# Altium schematic symbol library HITACHI Memory Non-Volatile RAM.SchLib: 1 symbol
Pins are listed as number, name and electrical type; pins without a type are passive.

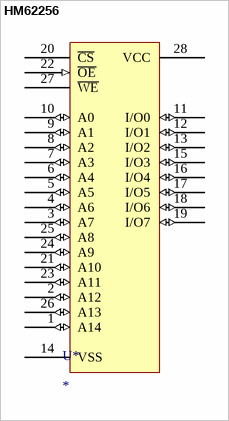
[diagram p0: symbol HM62256]

## HM62256
designator U*
32K x 8 Static RAM
pins: 1 A14 (io), 2 A12 (io), 3 A7 (io), 4 A6 (io), 5 A5 (io), 6 A4 (io), 7 A3 (io), 8 A2 (io), 9 A1 (io), 10 A0 (io), 11 I/O0 (io), 12 I/O1 (io), 13 I/O2 (io), 14 VSS (power), 15 I/O3 (io), 16 I/O4 (io), 17 I/O5 (io), 18 I/O6 (io), 19 I/O7 (io), 20 ~{CS}, 21 A10 (io), 22 ~{OE} (in), 23 A11 (io), 24 A9 (io), 25 A8 (io), 26 A13 (io), 27 ~{WE}, 28 VCC (power)